# Altium footprint library advanced-test-technologies.PCBLIB: 1 footprints
Each footprint in its own frame and in the unit in brackets; x right, y up, seen from the top. Pads: shape width x height; smd on the part's side, far side on the other; paste and mask are expansions set on the pad; w line width, h text height; cw(c..) or ccw(c..) is an arc to the next point about the centre after c.
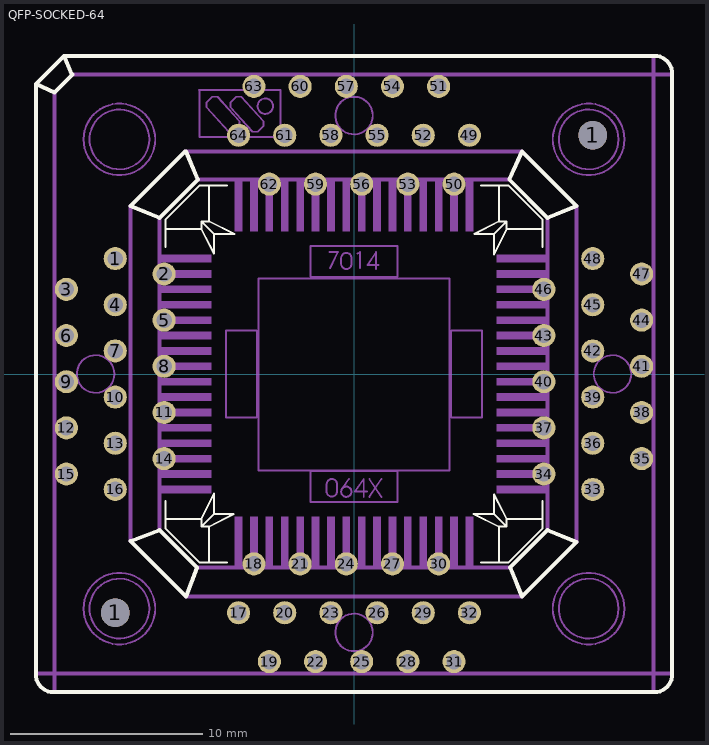
[diagram p0: the footprint, top view; thin cyan lines are the x and y axes]

## QFP-SOCKED-64 [mil]
pads (66):
  round 59.06 hole 59.06: 1(-488.58,-488.58) 1(488.58,488.58)
  round 47.24 hole 31.5: 1(-488.58,236.22) 2(-388.58,204.72) 3(-588.58,173.23) 4(-488.58,141.73) 5(-388.58,110.24) 6(-588.58,78.74) 7(-488.58,47.24) 8(-388.58,15.75) 9(-588.58,-15.75) 10(-488.58,-47.24) 11(-388.58,-78.74) 12(-588.58,-110.24) 13(-488.58,-141.73) 14(-388.58,-173.23) 15(-588.58,-204.72) 16(-488.58,-236.22) 17(-236.22,-488.58) 18(-204.72,-388.58) 19(-173.23,-588.58) 20(-141.73,-488.58) 21(-110.24,-388.58) 22(-78.74,-588.58) 23(-47.24,-488.58) 24(-15.75,-388.58) 25(15.75,-588.58) 26(47.24,-488.58) 27(78.74,-388.58) 28(110.24,-588.58) 29(141.73,-488.58) 30(173.23,-388.58) 31(204.72,-588.58) 32(236.22,-488.58) 33(488.58,-236.22) 34(388.58,-204.72) 35(588.58,-173.23) 36(488.58,-141.73) 37(388.58,-110.24) 38(588.58,-78.74) 39(488.58,-47.24) 40(388.58,-15.75) 41(588.58,15.75) 42(488.58,47.24) 43(388.58,78.74) 44(588.58,110.24) 45(488.58,141.73) 46(388.58,173.23) 47(588.58,204.72) 48(488.58,236.22) 49(236.22,488.58) 50(204.72,388.58) 51(173.23,588.58) 52(141.73,488.58) 53(110.24,388.58) 54(78.74,588.58) 55(47.24,488.58) 56(15.75,388.58) 57(-15.75,588.58) 58(-47.24,488.58) 59(-78.74,388.58) 60(-110.24,588.58) 61(-141.73,488.58) 62(-173.23,388.58) 63(-204.72,588.58) 64(-236.22,488.58)
Top Overlay:
  lines w4: -385.8,-260.11 -385.8,-296.77 ; -385.8,260.11 -385.8,296.77 ; -260.11,-385.8 -296.77,-385.8 ; -260.11,385.8 -296.77,385.8 ; 260.11,-385.8 296.77,-385.8 ; 260.11,385.8 296.77,385.8 ; 385.8,-260.11 385.8,-296.77 ; 385.8,260.11 385.8,296.77 ; -385.8,-296.77 -312.48,-296.77 ; -385.8,-296.77 -385.8,-315.97 -315.97,-385.8 -296.77,-385.8 ; -385.8,296.77 -385.8,315.97 -315.97,385.8 -296.77,385.8 ; -385.8,296.77 -312.48,296.77 ; -312.48,-312.48 -296.77,-312.48 ; -312.48,-312.48 -286.3,-286.3 ; -312.48,-312.48 -312.48,-296.77 ; -312.48,-296.77 -286.3,-244.4 -286.3,-286.3 ; -312.48,296.77 -286.3,246.15 -286.3,286.3 ; -312.48,296.77 -312.48,312.48 ; -312.48,312.48 -286.3,286.3 ; -312.48,312.48 -296.77,312.48 ; -296.77,-385.8 -296.77,-312.48 ; -296.77,-312.48 -246.15,-286.3 -286.3,-286.3 ; -296.77,312.48 -244.4,286.3 -286.3,286.3 ; -296.77,312.48 -296.77,385.8 ; 286.3,-286.3 244.4,-286.3 296.77,-312.48 ; 286.3,-286.3 286.3,-246.15 312.48,-296.77 ; 286.3,-286.3 312.48,-312.48 ; 286.3,286.3 286.3,244.4 312.48,296.77 ; 286.3,286.3 246.15,286.3 296.77,312.48 ; 286.3,286.3 312.48,312.48 ; 296.77,-385.8 296.77,-312.48 ; 296.77,-385.8 315.97,-385.8 385.8,-315.97 385.8,-296.77 ; 296.77,-312.48 312.48,-312.48 ; 296.77,312.48 312.48,312.48 ; 296.77,312.48 296.77,385.8 ; 296.77,385.8 315.97,385.8 385.8,315.97 385.8,296.77 ; 312.48,-312.48 312.48,-296.77 ; 312.48,-296.77 385.8,-296.77 ; 312.48,296.77 312.48,312.48 ; 312.48,296.77 385.8,296.77
  lines w8: -577.83,612.74 -593.54,651.15 ; -576.08,612.74 -612.74,576.08 -651.15,593.54 ; -345.65,455.63 -457.37,343.91 -398.02,319.46 -319.46,398.02 -343.91,455.63 ; -651.15,593.54 -651.15,-614.49 ccw(c-614.49,-614.49) -614.49,-651.15 614.49,-651.15 ccw(c614.49,-614.49) 651.15,-614.49 651.15,614.49 ccw(c614.49,614.49) 614.49,651.15 -593.54,651.15 ; -651.15,593.54 -593.54,651.15 ; -457.37,-342.16 -343.9,-455.63 -321.21,-396.28 -398.02,-319.46 -457.37,-342.16 ; 317.72,398.02 396.28,319.46 455.63,343.91 343.91,455.63 317.72,398.02 ; 319.46,-396.28 396.28,-319.46 455.63,-343.91 343.91,-455.63 319.46,-396.28
Mechanical 16:
  drawing of 158 lines, arcs and shapes, not listed